# Altium schematic symbol library LT1117CST-5&hash_PBF.SchLib: 1 symbol
Pins are listed as number, name and electrical type; pins without a type are passive.

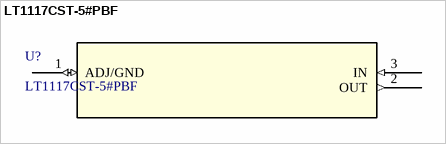
[diagram p0: symbol LT1117CST-5#PBF]

## LT1117CST-5#PBF
designator U?
No Description Available; Mfr_Name: Analog Devices Inc; Copyright: Copyright (C) 2022 Ultra Librarian. All rights reserved.; Manufacturer_Part_Number: LT1117CST-5#PBF; RefDes: RefDes; Type: DEV
footprint SOT-223_ST_LIT
pins: 1 ADJ/GND (io), 2 OUT (out), 3 IN (in)